# EAGLE library part 62674-121121ALF (library NUSTARS ADS Library)
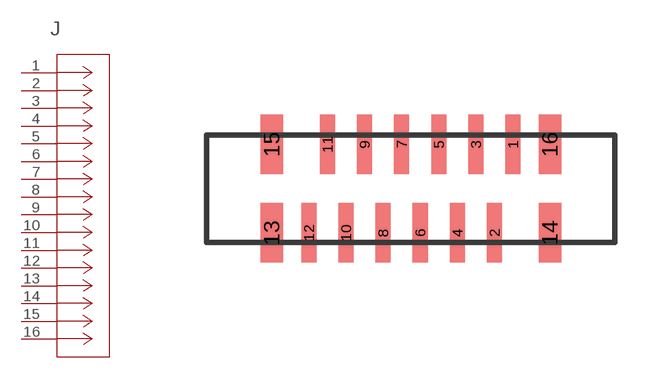
[diagram p3: symbol with the pads of CON12_1X12_DUT_58XF; footprint CON12_1X12_DUT_58XF]

Designator prefix J

## 62674-121121ALF (MANUFACTURER_PART_NUMBER: 62674121121ALF; VENDOR: FCI)  [CON12_1X12_DUT_58XF]
1  11  pas
2  22  pas
3  33  pas
4  44  pas
5  55  pas
6  66  pas
7  77  pas
8  88  pas
9  99  pas
10  1010  pas
11  1111  pas
12  1212  pas
13  1313  pas
14  1414  pas
15  1515  pas
16  1616  pas

## Footprint CON12_1X12_DUT_58XF (pad centres in mm)
smd 0.406 x 1.6: 1 0,4.775; 2 -0.5,2.388; 3 -1,4.775; 4 -1.5,2.388; 5 -2,4.775; 6 -2.5,2.388; 7 -3,4.775; 8 -3.5,2.388; 9 -4,4.775; 10 -4.5,2.388; 11 -5,4.775; 12 -5.5,2.388
smd 0.61 x 1.6: 13 -6.497,2.388; 14 0.997,2.388; 15 -6.497,4.775; 16 0.997,4.775